# Altium footprint library PcbLibCasino.PcbLib: 17 footprints (part 1 of 2)
Each footprint in its own frame and in the unit in brackets; x right, y up, seen from the top. Pads: shape width x height; smd on the part's side, far side on the other; paste and mask are expansions set on the pad; w line width, h text height; cw(c..) or ccw(c..) is an arc to the next point about the centre after c.
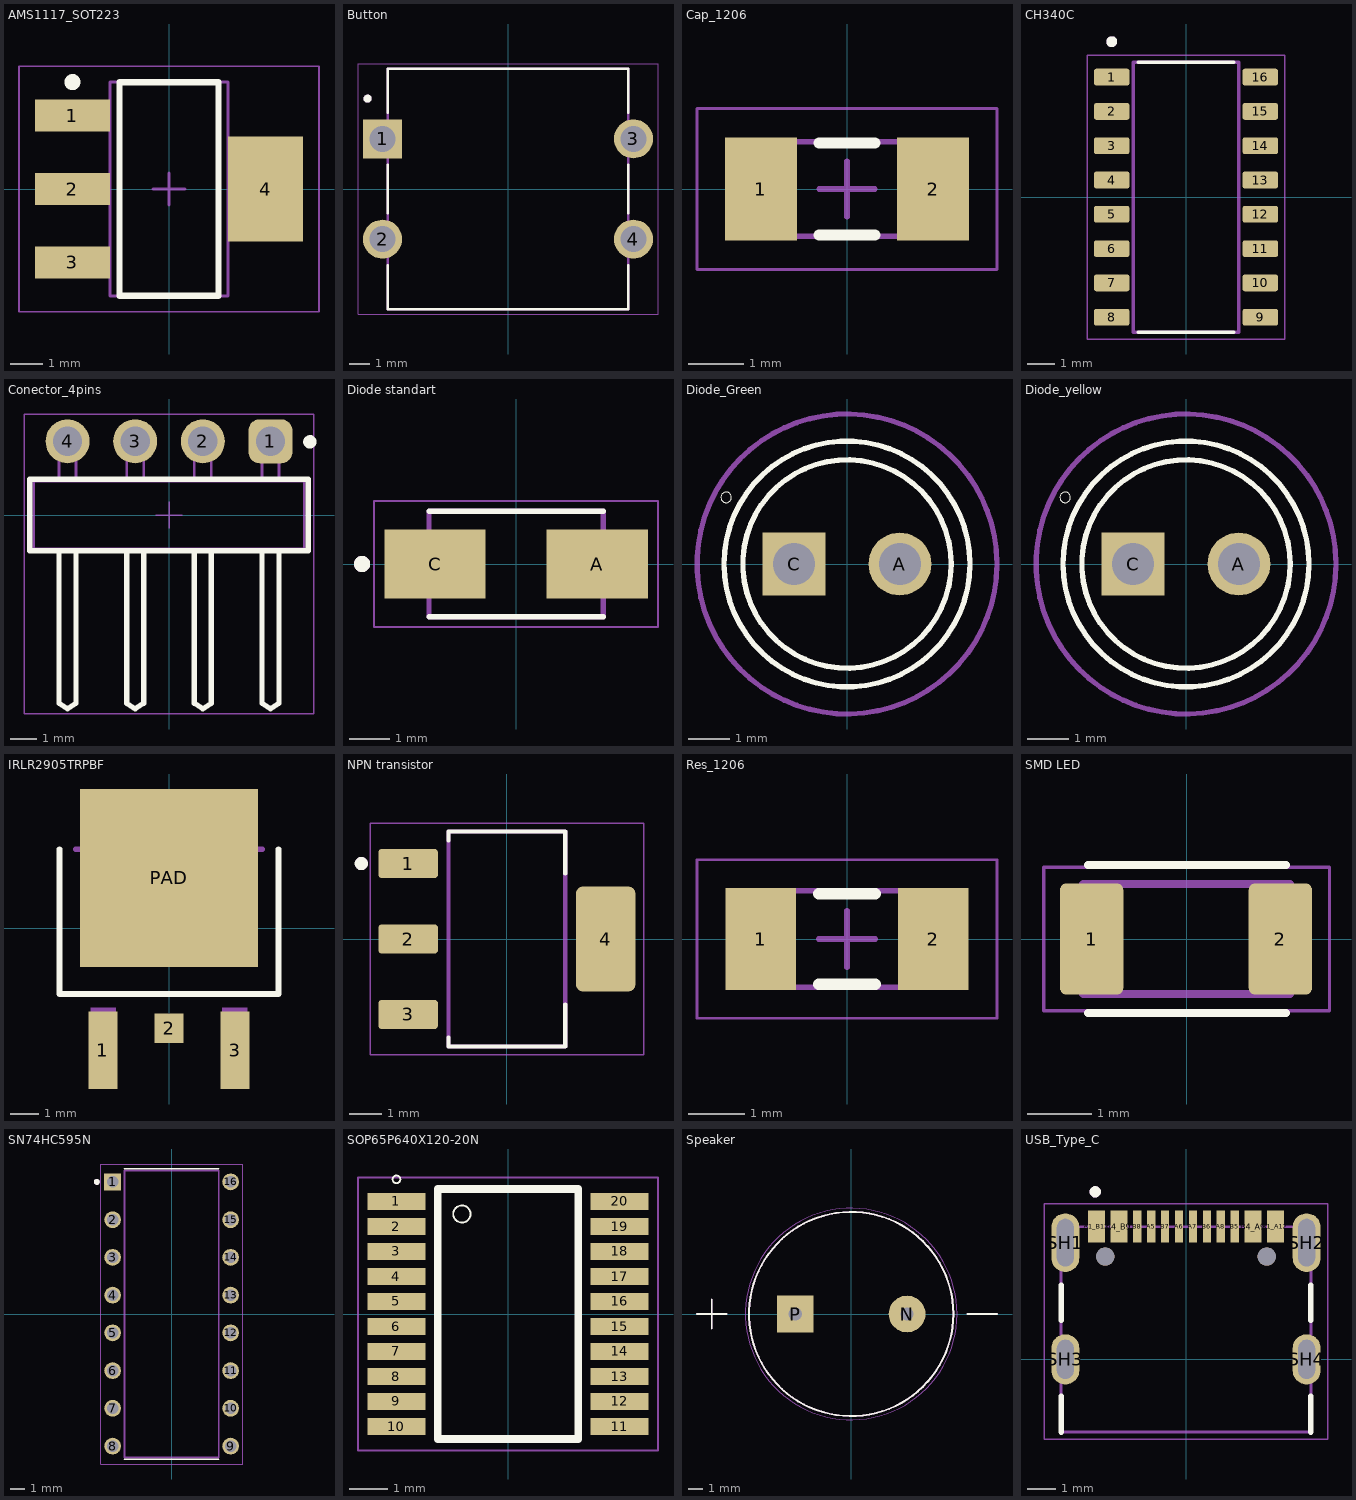
[diagram p0: the footprints below, top view; thin cyan lines are the x and y axes]

## AMS1117_SOT223 [mm] "SOT223, 4-Leads, Body 6.50x7.00mm (avg), Pitch 2.30mm, IPC Low Density"
height 1.8
pads (4):
  rect 2.35x1 smd: 1(-3.025,2.3) 2(-3.025,0) 3(-3.025,-2.3)
  rect 2.35x3.3 smd: 4(3.025,0)
Top Overlay:
  circle w0.25: c-3.025,3.35 r0.125
  lines w0.2: -1.55,-3.35 1.55,-3.35 1.55,3.35 -1.55,3.35 -1.55,-3.35
Top Courtyard:
  lines w0.05: -4.7,-3.85 4.7,-3.85 4.7,3.85 -4.7,3.85 -4.7,-3.85
  lines w0.1: -0.5,0 0.5,0 ; 0,-0.5 0,0.5
Top Assembly:
  lines w0.1: -1.85,-3.35 1.85,-3.35 1.85,3.35 -1.85,3.35 -1.85,-3.35
3D body "AMS1117_SOT223.step": height 1.8, standoff 0, extent -3.5,-3.35 3.5,3.35

## Button [mm] "12*12mm"
pads (4):
  rect 1.95x1.95 / inner round 1.95 / far side rect 1.95x1.95 hole 1.3: 1(-6.25,2.5)
  round 1.95 hole 1.3: 2(-6.25,-2.5) 3(6.25,2.5) 4(6.25,-2.5)
Top Overlay:
  circle w0.2: c-7,4.5 r0.1
  lines w0.127: -6,-3.8 -6,-6 6,-6 6,-3.8 ; -6,-1.205 -6,1.205 ; -6,3.795 -6,6 6,6 6,3.795 ; 6,-1.205 6,1.205
Mechanical 13:
  circle w0.2: c-7,4.5 r0.1
  lines w0.127: -6,-1 -6,1 ; 6,-1 6,1 ; -6,-6 -6,6 6,6 6,-6 -6,-6
Mechanical 15:
  lines w0.05: -7.475,-6.25 -7.475,6.25 7.475,6.25 7.475,-6.25 -7.475,-6.25
3D body "step_temp.STEP": height 4.3, standoff -3.2, extent -7,-6 7,6

## Cap_1206 [mm]
height 1.6
pads (2):
  rect 1.3x1.85 smd: 1(-1.55,0) 2(1.55,0)
Top Overlay:
  lines w0.2: -0.5,-0.825 0.5,-0.825 ; -0.5,0.825 0.5,0.825
Top Courtyard:
  lines w0.05: -2.7,-1.45 -2.7,1.45 2.7,1.45 2.7,-1.45 -2.7,-1.45
  lines w0.1: -0.5,0 0.5,0 ; 0,-0.5 0,0.5
Top Assembly:
  lines w0.1: -1.6,-0.85 -1.6,0.85 1.6,0.85 1.6,-0.85 -1.6,-0.85
3D body "Cap_1206.step": height 1.6, standoff 0, extent -1.6,-0.85 1.6,0.85

## CH340С [mm]
pads (16):
  rrect25% 1.31x0.62 smd: 1(-2.75,4.445) 2(-2.75,3.175) 3(-2.75,1.905) 4(-2.75,0.635) 5(-2.75,-0.635) 6(-2.75,-1.905) 7(-2.75,-3.175) 8(-2.75,-4.445) 9(2.75,-4.445) 10(2.75,-3.175) 11(2.75,-1.905) 12(2.75,-0.635) 13(2.75,0.635) 14(2.75,1.905) 15(2.75,3.175) 16(2.75,4.445)
Top Overlay:
  circle w0.2: c-2.75,5.755 r0.1
  lines w0.127: -1.775,-5 1.775,-5 -1.775,-5 ; -1.775,5 1.775,5 -1.775,5
Mechanical 13:
  circle w0.2: c-2.75,5.755 r0.1
  lines w0.127: -1.95,-5 1.95,-5 1.95,5 -1.95,5 -1.95,-5
Mechanical 15:
  lines w0.05: -3.655,-5.25 -3.655,5.25 3.655,5.25 3.655,-5.25 -3.655,-5.25
3D body "step_temp.STEP": height 1.8, standoff 0, extent -3,-5 3,5

## Conector_4pins [mm]
pads (4):
  rrect50% 1.65x1.65 hole 1.1: 1(3.81,2.77)
  round 1.65 hole 1.1: 2(1.27,2.77) 3(-1.27,2.77) 4(-3.81,2.77)
Top Overlay:
  circle w0.25: c5.29,2.75 r0.125
  lines w0.2: -4.13,-1.345 -4.13,-7.07 -3.81,-7.27 -3.49,-7.07 -3.49,-1.345 ; -1.59,-1.345 -1.59,-7.07 -1.27,-7.27 -0.95,-7.07 -0.95,-1.345 ; 0.95,-1.345 0.95,-7.07 1.27,-7.27 1.59,-7.07 1.59,-1.345 ; 3.49,-1.345 3.49,-7.07 3.81,-7.27 4.13,-7.07 4.13,-1.345 ; -5.23,-1.345 -5.23,1.345 5.23,1.345 5.23,-1.345 -5.23,-1.345
Top Designator:
  lines w0.05: -5.43,-7.47 -5.43,3.795 5.43,3.795 5.43,-7.47 -5.43,-7.47
Top Component Outline:
  lines w0.1: -4.13,-1.27 -4.13,-7.07 -3.81,-7.27 -3.49,-7.07 -3.49,-1.27 ; -4.13,1.27 -4.13,3.09 -3.49,3.09 -3.49,1.27 ; -1.59,-1.27 -1.59,-7.07 -1.27,-7.27 -0.95,-7.07 -0.95,-1.27 ; -1.59,1.27 -1.59,3.09 -0.95,3.09 -0.95,1.27 ; 0.95,-1.27 0.95,-7.07 1.27,-7.27 1.59,-7.07 1.59,-1.27 ; 0.95,1.27 0.95,3.09 1.59,3.09 1.59,1.27 ; 3.49,-1.27 3.49,-7.07 3.81,-7.27 4.13,-7.07 4.13,-1.27 ; 3.49,1.27 3.49,3.09 4.13,3.09 4.13,1.27 ; -5.08,-1.27 5.08,-1.27 5.08,1.27 -5.08,1.27 -5.08,-1.27
Bottom Courtyard:
  lines w0.05: -0.5,0 0.5,0 ; 0,-0.5 0,0.5

## Diode standart [mm]
pads (2):
  rect 2.5x1.7 smd: A(2,0) C(-2,0)
Top Overlay:
  circle w0.2: c-3.8,0 r0.1
  lines w0.127: -2.15,-1.302 2.15,-1.302 ; -2.15,1.302 2.15,1.302
Mechanical 13:
  circle w0.2: c-3.8,0 r0.1
  lines w0.127: -2.15,-1.302 2.15,-1.302 2.15,1.302 -2.15,1.302 -2.15,-1.302
Mechanical 15:
  lines w0.05: -3.5,-1.552 3.5,-1.552 3.5,1.552 -3.5,1.552 -3.5,-1.552
3D body "step_temp.STEP": height 2.4, standoff 0, extent -2.598,-1.302 2.598,1.302

## Diode_Green [mm] "LED g"
pads (2):
  round 1.508 hole 1: A(1.27,0)
  rect 1.508x1.508 / inner round 1.508 / far side rect 1.508x1.508 hole 1: C(-1.27,0)
Top Overlay:
  circle w0.127: c0,0 r2.95
  circle w0.127: c0,0 r2.5
  circle w0: c-2.9,1.6 r0.127
Mechanical 15:
  circle w0.127: c0,0 r3.6
3D body "step_temp.STEP": height 9.6, standoff -26, extent -2.5,-2.95 2.95,2.95

## Diode_yellow [mm] "LED y"
pads (2):
  round 1.508 hole 1: A(1.27,0)
  rect 1.508x1.508 / inner round 1.508 / far side rect 1.508x1.508 hole 1: C(-1.27,0)
Top Overlay:
  circle w0: c-2.9,1.6 r0.127
  circle w0.127: c0,0 r2.5
  circle w0.127: c0,0 r2.95
Mechanical 15:
  circle w0.127: c0,0 r3.6
3D body "step_temp.STEP": height 9.6, standoff -26, extent -2.5,-2.95 2.95,2.95

## IRLR2905TRPBF [mm]
pads (4):
  rect 1x2.7 smd: 1(-2.3,-4.25) 3(2.3,-4.25)
  rect 1x1.02 smd: 2(0,-3.48)
  rect 6.2x6.2 smd: PAD(0,1.75)
Top Overlay:
  lines w0.203: -3.81,2.75 -3.81,-2.286 3.81,-2.286 3.81,2.75
Mechanical 13:
  region: 2.65,3.85 2.65,2.794 -2.65,2.794 -2.65,3.85 -2.108,4.25 2.108,4.25
  region: 2.718,-5.456 1.856,-5.456 1.856,-2.769 2.718,-2.769
  region: -1.854,-5.463 -2.724,-5.463 -2.724,-2.769 -1.854,-2.769
  lines w0.203: -3.25,2.75 3.25,2.75 ; -2.565,2.794 2.565,2.794 2.565,3.505 2.108,3.962 -2.108,3.962 -2.565,3.505 -2.565,2.794
3D body "step_temp.STEP": height 2.39, standoff -0.13, extent -4.952,-3.27 4.952,3.27

## NPN transistor [mm]
pads (4):
  rrect22% 1.81x0.89 smd: 1(-3.01,2.3) 2(-3.01,0) 3(-3.01,-2.3)
  rrect22% 1.81x3.19 smd: 4(3.01,0)
Top Overlay:
  circle w0.2: c-4.44,2.3 r0.1
  lines w0.127: -1.78,-3.28 1.78,-3.28 ; -1.78,-3.25 -1.78,-3 ; -1.78,3 -1.78,3.25 ; -1.78,3.28 1.78,3.28 ; 1.78,-3.25 1.78,-2 ; 1.78,2 1.78,3.25
Mechanical 13:
  circle w0.2: c-4.437,2.3 r0.1
  lines w0.127: -1.78,-3.28 -1.78,3.28 1.78,3.28 1.78,-3.28 -1.78,-3.28
Mechanical 15:
  lines w0.05: -4.17,-3.53 4.17,-3.53 4.17,3.53 -4.17,3.53 -4.17,-3.53
3D body "step_temp.STEP": height 1.65, standoff 0, extent -3.5,-3.25 3.5,3.25

## Res_1206 [mm] "Chip Resistor, 2-Leads, Body 3.10x1.60mm, IPC Low Density"
height 0.6
pads (2):
  rect 1.25x1.8 smd: 1(-1.525,0) 2(1.525,0)
Top Overlay:
  lines w0.2: -0.5,-0.8 0.5,-0.8 ; -0.5,0.8 0.5,0.8
Top Courtyard:
  lines w0.05: -2.65,-1.4 2.65,-1.4 2.65,1.4 -2.65,1.4 -2.65,-1.4
  lines w0.1: -0.5,0 0.5,0 ; 0,-0.5 0,0.5
Top Assembly:
  lines w0.1: -1.6,-0.85 1.6,-0.85 1.6,0.85 -1.6,0.85 -1.6,-0.85
3D body "Res_1206.step": height 0.6, standoff 0, extent -1.6,-0.85 1.6,0.85

## SMD LED [mm]
pads (2):
  rrect20% 0.98x1.72 smd paste+0 mask+0.102: 1(-1.47,0) 2(1.45,0)
Top Overlay:
  lines w0.127: -1.524,-1.143 1.536,-1.143 ; -1.524,1.143 1.536,1.143
Mechanical 13:
  lines w0.127: -1.6,-0.85 1.6,-0.85 1.6,0.85 -1.6,0.85 -1.6,-0.85
Mechanical 15:
  lines w0.05: -2.21,-1.11 -2.21,1.11 2.21,1.11 2.21,-1.11 -2.21,-1.11

## SN74HC595N [mm]
height 0.762
pads (16):
  rect 1.13x1.13 / inner round 1.13 / far side rect 1.13x1.13 hole 0.78: 1(-3.97,8.89)
  round 1.13 hole 0.78: 2(-3.97,6.35) 3(-3.97,3.81) 4(-3.97,1.27) 5(-3.97,-1.27) 6(-3.97,-3.81) 7(-3.97,-6.35) 8(-3.97,-8.89) 9(3.97,-8.89) 10(3.97,-6.35) 11(3.97,-3.81) 12(3.97,-1.27) 13(3.97,1.27) 14(3.97,3.81) 15(3.97,6.35) 16(3.97,8.89)
Top Overlay:
  circle w0.2: c-5.035,8.89 r0.1
  lines w0.127: -3.175,-9.775 3.175,-9.775 ; -3.175,9.775 3.175,9.775
Mechanical 13:
  circle w0.2: c-5.035,8.89 r0.1
  lines w0.127: -3.175,-9.653 3.175,-9.653 3.175,9.653 -3.175,9.653 -3.175,-9.653
Mechanical 15:
  lines w0.05: -4.785,-10.095 4.785,-10.095 4.785,10.095 -4.785,10.095 -4.785,-10.095
3D body "step_temp.STEP": height 5.33, standoff -3.05, extent -3.95,-10.67 3.95,10.67

## SOP65P640X120-20N [mm]
pads (20):
  rect 1.5x0.45 smd: 1(-2.9,2.925) 2(-2.9,2.275) 3(-2.9,1.625) 4(-2.9,0.975) 5(-2.9,0.325) 6(-2.9,-0.325) 7(-2.9,-0.975) 8(-2.9,-1.625) 9(-2.9,-2.275) 10(-2.9,-2.925) 11(2.9,-2.925) 12(2.9,-2.275) 13(2.9,-1.625) 14(2.9,-0.975) 15(2.9,-0.325) 16(2.9,0.325) 17(2.9,0.975) 18(2.9,1.625) 19(2.9,2.275) 20(2.9,2.925)
Top Overlay:
  circle w0.05: c-2.9,3.5 r0.1
  circle w0.05: c-1.2,2.6 r0.224
  circle w0.05: c-1.2,2.6 r0.224
  lines w0.2: -1.825,-3.25 -1.825,3.25 1.825,3.25 1.825,-3.25 -1.825,-3.25
Mechanical 15:
  lines w0.05: -3.9,-3.55 -3.9,3.55 3.9,3.55 3.9,-3.55 -3.9,-3.55
3D body "step_temp.STEP": height 1.29, standoff 0.09, extent -3.2,-3.25 3.2,3.25

## Speaker [mm]
pads (2):
  round 2.5 hole 0.9: N(3.8,0)
  rect 2.5x2.5 / inner round 2.5 / far side rect 2.5x2.5 hole 0.9: P(-3.8,0)
Top Overlay:
  circle w0.127: c0,0 r6.95
  lines w0.127: -10.49,0 -8.49,0 ; -9.49,-1 -9.49,1 ; 7.92,0 9.92,0
Mechanical 13:
  circle w0.127: c0,0 r6.95
  lines w0.127: -10.49,0 -8.49,0 ; -9.49,-1 -9.49,1 ; 7.92,0 9.92,0
Mechanical 15:
  circle w0.05: c0,0 r7.2
3D body "step_temp.STEP": height 7.5, standoff -5.6, extent -6.95,-6.95 6.95,6.95

## USB_Type_C [mm]
pads (18):
  rect 0.6x1.15 smd mask+0.05: A1_B12(-3.2,4.755) A4_B9(-2.4,4.755) B1_A12(3.2,4.755) B4_A9(2.4,4.755)
  rect 0.3x1.15 smd mask+0.05: A5(-1.25,4.755) A6(-0.25,4.755) A7(0.25,4.755) A8(1.25,4.755) B5(1.75,4.755) B6(0.75,4.755) B7(-0.75,4.755) B8(-1.75,4.755)
  oval 1x2.1 hole 0.6 slot 1.7 at 90 deg: SH1(-4.32,4.18) SH2(4.32,4.18)
  oval 1x1.8 hole 0.6 slot 1.4 at 90 deg: SH3(-4.32,0) SH4(4.32,0)
  round 0.65 hole 0.65 unplated: ""(-2.89,3.68) ""(2.89,3.68)
Top Overlay:
  circle w0.2: c-3.25,6 r0.1
  lines w0.2: -4.47,-2.6 -4.47,-1.32 ; -4.47,1.4 -4.47,2.65 ; 4.47,-2.6 4.47,-1.32 ; 4.47,1.4 4.47,2.65
Mechanical 13:
  circle w0.2: c-3.25,6 r0.1
  lines w0.1: -4.47,-2.6 -4.47,4.75 4.47,4.75 4.47,-2.6 -4.47,-2.6
Mechanical 15:
  lines w0.05: -5.07,-2.85 5.07,-2.85 5.07,5.58 -5.07,5.58 -5.07,-2.85
3D body "USB4105-GF-A--3DModel-STEP-510211.STEP": height 3.31, standoff -1.1, extent -4.47,-2.6 4.47,5.11